# Altium footprint library NCP164CSN330T1G.PcbLib: 3 footprints
Each footprint in its own frame and in the unit in brackets; x right, y up, seen from the top. Pads: shape width x height; smd on the part's side, far side on the other; paste and mask are expansions set on the pad; w line width, h text height; cw(c..) or ccw(c..) is an arc to the next point about the centre after c.
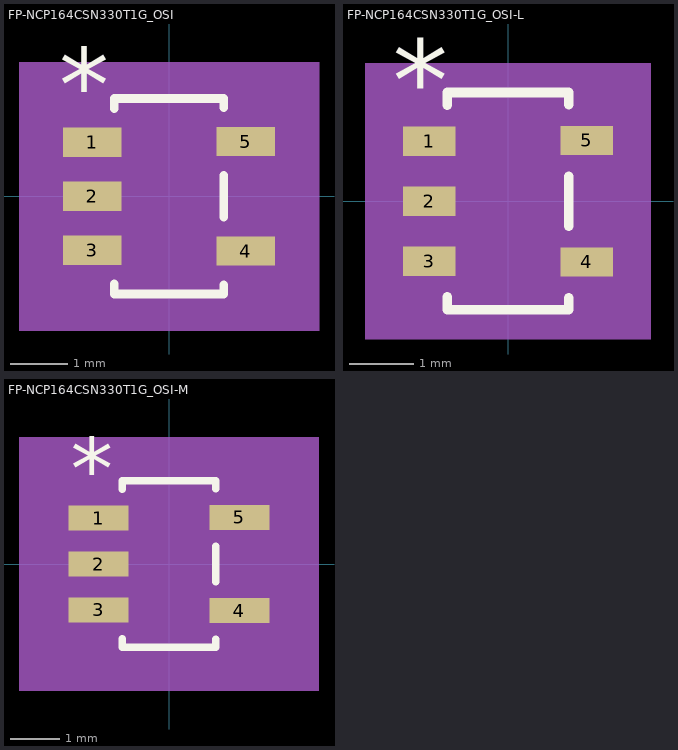
[diagram p0: the footprints below, top view; thin cyan lines are the x and y axes]

## FP-NCP164CSN330T1G_OSI [mil]
pads (5):
  rect 40.28x20 smd paste+0 mask+0: 1(-52.64,37) 2(-52.64,0) 3(-52.64,-37) 4(52.64,-37.5) 5(52.64,37.5)
Top Overlay:
  lines w6: -37.5,-60.1 -37.5,-67 37.5,-67 37.5,-60.6 ; -37.5,60.1 -37.5,67 37.5,67 37.5,60.6 ; 37.5,-14.4 37.5,14.4
  text "*" at -75.14,52 h50
Mechanical 5:
  region: 102.78,-92 -102.78,-92 -102.78,92 102.78,92
Mechanical 13:
  lines w1: -12,62 -12,50 12,50 12,62 ; -59,-47 -59,-27 -32.5,-27 -32.5,-47 -59,-47 ; -59,-10 -59,10 -32.5,10 -32.5,-10 -59,-10 ; -59,27 -59,47 -32.5,47 -32.5,27 -59,27 ; -32.5,-62 32.5,-62 32.5,62 -32.5,62 -32.5,-62 ; 32.5,-47.5 32.5,-27.5 59,-27.5 59,-47.5 32.5,-47.5 ; 32.5,27.5 32.5,47.5 59,47.5 59,27.5 32.5,27.5
  text "*" at -35,9 h50
Mechanical 15:
  region: 47.5,-77 -47.5,-77 -47.5,-57 -84,-57 -84,57 -47.5,57 -47.5,77 47.5,77 47.5,57.5 84,57.5 84,-57.5 47.5,-57.5
  lines w6: -84,-57 -47.5,-57 -47.5,-77 47.5,-77 47.5,-57.5 84,-57.5 84,57.5 47.5,57.5 47.5,77 -47.5,77 -47.5,57 -84,57 -84,-57
3D body "FP-NCP164CSN330T1G_OSI.step": height 43.11, standoff 0, extent -59.02,-62.01 59.02,62.01

## FP-NCP164CSN330T1G_OSI-L [mil]
pads (5):
  rect 32.41x18.03 smd paste+0 mask+0: 1(-48.7,37) 2(-48.7,0) 3(-48.7,-37) 4(48.7,-37.5) 5(48.7,37.5)
Top Overlay:
  lines w6: -37.5,-59.12 -37.5,-67 37.5,-67 37.5,-59.62 ; -37.5,59.12 -37.5,67 37.5,67 37.5,59.62 ; 37.5,-15.38 37.5,15.38
  text "*" at -71.2,50.03 h50
Mechanical 5:
  region: 87.91,-85 -87.91,-85 -87.91,85 87.91,85
Mechanical 13:
  lines w1: -12,62 -12,50 12,50 12,62 ; -59,-47 -59,-27 -32.5,-27 -32.5,-47 -59,-47 ; -59,-10 -59,10 -32.5,10 -32.5,-10 -59,-10 ; -59,27 -59,47 -32.5,47 -32.5,27 -59,27 ; -32.5,-62 32.5,-62 32.5,62 -32.5,62 -32.5,-62 ; 32.5,-47.5 32.5,-27.5 59,-27.5 59,-47.5 32.5,-47.5 ; 32.5,27.5 32.5,47.5 59,47.5 59,27.5 32.5,27.5
  text "*" at -35,7.03 h50
Mechanical 15:
  region: 40.5,-70 -40.5,-70 -40.5,-55.03 -76.02,-55.03 -76.02,55.03 -40.5,55.03 -40.5,70 40.5,70 40.5,55.53 76.02,55.53 76.02,-55.53 40.5,-55.53
  lines w6: -76.02,-55.03 -40.5,-55.03 -40.5,-70 40.5,-70 40.5,-55.53 76.02,-55.53 76.02,55.53 40.5,55.53 40.5,70 -40.5,70 -40.5,55.03 -76.02,55.03 -76.02,-55.03
3D body "FP-NCP164CSN330T1G_OSI.step": height 43.11, standoff 0, extent -59.02,-62.01 59.02,62.01

## FP-NCP164CSN330T1G_OSI-M [mil]
pads (5):
  rect 48.15x20 smd paste+0 mask+0: 1(-56.58,37) 2(-56.58,0) 3(-56.58,-37) 4(56.58,-37.5) 5(56.58,37.5)
Top Overlay:
  lines w6: -37.5,-60.1 -37.5,-67 37.5,-67 37.5,-60.6 ; -37.5,60.1 -37.5,67 37.5,67 37.5,60.6 ; 37.5,-14.4 37.5,14.4
  text "*" at -79.08,52 h50
Mechanical 5:
  region: 120.65,-102 -120.65,-102 -120.65,102 120.65,102
Mechanical 13:
  lines w1: -12,62 -12,50 12,50 12,62 ; -59,-47 -59,-27 -32.5,-27 -32.5,-47 -59,-47 ; -59,-10 -59,10 -32.5,10 -32.5,-10 -59,-10 ; -59,27 -59,47 -32.5,47 -32.5,27 -59,27 ; -32.5,-62 32.5,-62 32.5,62 -32.5,62 -32.5,-62 ; 32.5,-47.5 32.5,-27.5 59,-27.5 59,-47.5 32.5,-47.5 ; 32.5,27.5 32.5,47.5 59,47.5 59,27.5 32.5,27.5
  text "*" at -35,9 h50
Mechanical 15:
  region: 57.5,-87 -57.5,-87 -57.5,-57 -94,-57 -94,57 -57.5,57 -57.5,87 57.5,87 57.5,57.5 94,57.5 94,-57.5 57.5,-57.5
  lines w6: -94,-57 -57.5,-57 -57.5,-87 57.5,-87 57.5,-57.5 94,-57.5 94,57.5 57.5,57.5 57.5,87 -57.5,87 -57.5,57 -94,57 -94,-57
3D body "FP-NCP164CSN330T1G_OSI.step": height 43.11, standoff 0, extent -59.02,-62.01 59.02,62.01